# Altium footprint library OPL_Crystal Oscillator.PCBLIB: 5 footprints
Each footprint in its own frame and in the unit in brackets; x right, y up, seen from the top. Pads: shape width x height; smd on the part's side, far side on the other; paste and mask are expansions set on the pad; w line width, h text height; cw(c..) or ccw(c..) is an arc to the next point about the centre after c.
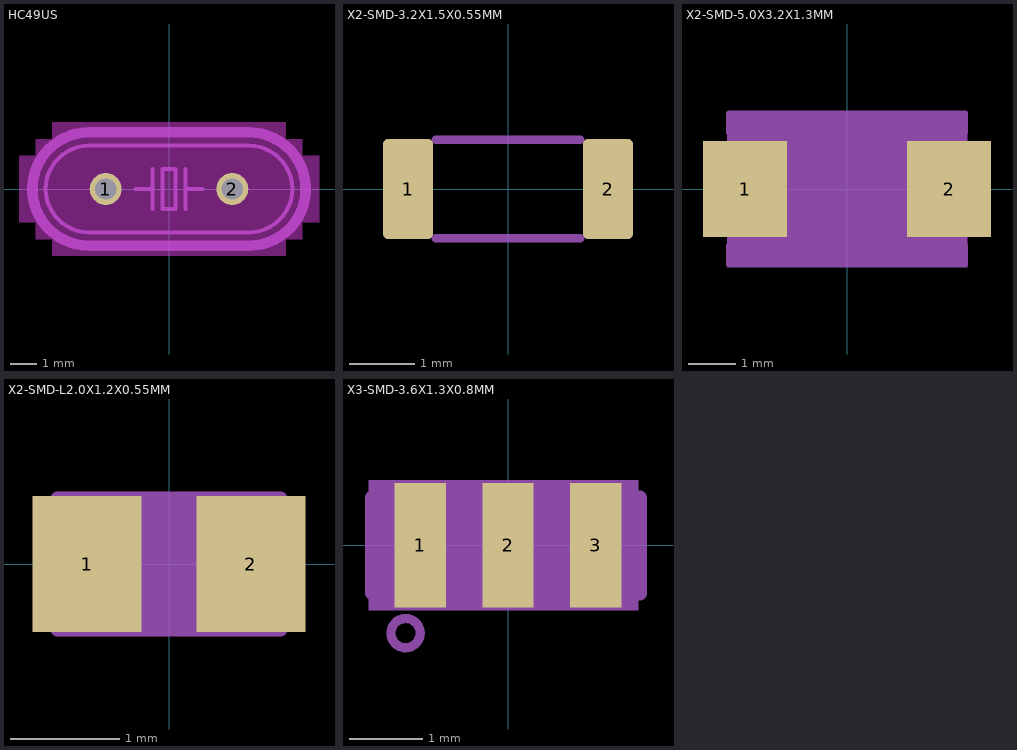
[diagram p0: the footprints below, top view; thin cyan lines are the x and y axes]

## HC49US [mil]
pads (2):
  round 48 hole 32: 1(-95,0) 2(95,0)
Top Layer keep-out:
  region: -175,-100 -175,100 175,100 175,-100
  region: -200,-75 -200,75 -175,75 -175,-75
  region: -225,-50 -225,50 -200,50 -200,-50
  region: 175,-75 175,75 200,75 200,-75
  region: 200,-50 200,50 225,50 225,-50
Mechanical 2:
  lines w6: -50,0 -25,0 ; -25,-30 -25,0 ; -25,30 -25,0 ; 25,-30 25,0 ; 25,30 25,0 ; 50,0 25,0 ; -120,-65 120,-65 ccw(c120,0) 120,65 -120,65 ccw(c-120,0) -120,-65 ; -10,-30 10,-30 10,30 -10,30 -10,-30
  lines w16: -120,-85 120,-85 ccw(c120,0) 120,85 -120,85 ccw(c-120,0) -120,-85

## X2-SMD-3.2X1.5X0.55MM [mil]
pads (2):
  rrect20% 30x60 smd: 1(-60,0) 2(60,0)
Mechanical 2:
  lines w5: -43.31,-29.53 43.31,-29.53 ; -43.31,29.53 43.31,29.53

## X2-SMD-5.0X3.2X1.3MM [mil]
pads (2):
  rect 70x80 smd: 1(-85,0) 2(85,0)
Mechanical 2:
  lines w5: -98.43,-47.24 -98.43,-62.99 98.43,-62.99 98.43,-47.24 ; -98.43,47.24 -98.43,62.99 98.43,62.99 98.43,47.24 ; -45,0 -25,0 ; -25,-50 -25,0 ; -25,50 -25,0 ; 25,-50 25,0 ; 25,50 25,0 ; 45,0 25,0 ; -10,-40 -10,40 10,40 10,-40 -10,-40
Mechanical 8:
  region: -100,-40 -100,40 -50,40 -50,-40
  region: 50,-40 50,40 100,40 100,-40
Mech34:
  region: -100,-65 -100,65 100,65 100,-65

## X2-SMD-L2.0X1.2X0.55MM [mm]
pads (2):
  rect 1x1.25 smd: 1(-0.75,0) 2(0.75,0)
Mechanical 2:
  lines w0.127: -0.2,-0.6 0.2,-0.6 ; -0.2,0.6 0.2,0.6 -0.2,0.6
Mechanical 8:
  lines w0.127: -1.025,-0.6 1.025,-0.6 1.025,0.6 -1.025,0.6 -1.025,-0.6
Mech34:
  region: -1,-0.6 -1,0.6 1,0.6 1,-0.6

## X3-SMD-3.6X1.3X0.8MM [mil]
pads (3):
  rect 27.56x66.93 smd: 1(-47.24,0) 2(0,0) 3(47.24,0)
Mechanical 2:
  circle w5: c-55.12,-47.24 r7.87
  lines w5: -31.5,-25.59 -15.75,-25.59 ; -31.5,25.59 -15.75,25.59 ; 15.75,-25.59 31.5,-25.59 ; 15.75,25.59 31.5,25.59
  lines w8: -66.93,-25.59 -72.83,-25.59 -72.83,25.59 -66.93,25.59 ; 66.93,-25.59 70.87,-25.59 70.87,25.59 66.93,25.59
Mechanical 8:
  lines w5: -62.99,-25.59 62.99,-25.59 62.99,25.59 -62.99,25.59 -62.99,-25.59
Mech34:
  region: -75,-35 -75,35 70,35 70,-35